# EAGLE library part 74HCT2G125DC,125 (library 74HCT2G125DC_125)
74HC(T)2G125 - Dual buffer/line driver; 3-state@en-us Source: Datasheet <https://assets.nexperia.com/documents/data-sheet/74HC_HCT2G125.pdf>
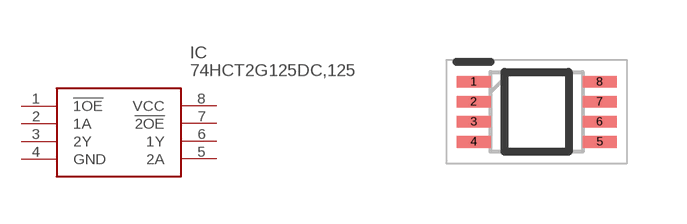
[diagram p0: symbol with the pads of SOP50P310X100-8N; footprint SOP50P310X100-8N]

Designator prefix IC

## 74HCT2G125DC,125 (Description: 74HC(T)2G125 - Dual buffer/line driver; 3-state@en-us; Height: 1mm; Manufacturer_Name: Nexperia; Manufacturer_Part_Number: 74HCT2G125DC,125; Mouser_Part_Number: 771-HCT2G125DC125; Mouser_Price-Stock: https://www.mouser.co.uk/ProductDetail/Nexperia/74HCT2G125DC125?qs=P62ublwmbi%252B%252B1eQ2FD8Fxg%3D%3D)  [SOP50P310X100-8N]
1  !1OE
2  1A
3  2Y
4  GND
5  2A
6  1Y
7  !2OE
8  VCC

## Footprint SOP50P310X100-8N (pad centres in mm)
SOT765-1
smd 0.85 x 0.3: 1 -1.575,0.75; 2 -1.575,0.25; 3 -1.575,-0.25; 4 -1.575,-0.75; 5 1.575,-0.75; 6 1.575,-0.25; 7 1.575,0.25; 8 1.575,0.75